# Altium footprint library TSOP_65P_N.PcbLib: 18 footprints (part 1 of 2)
Each footprint in its own frame and in the unit in brackets; x right, y up, seen from the top. Pads: shape width x height; smd on the part's side, far side on the other; paste and mask are expansions set on the pad; w line width, h text height; cw(c..) or ccw(c..) is an arc to the next point about the centre after c.
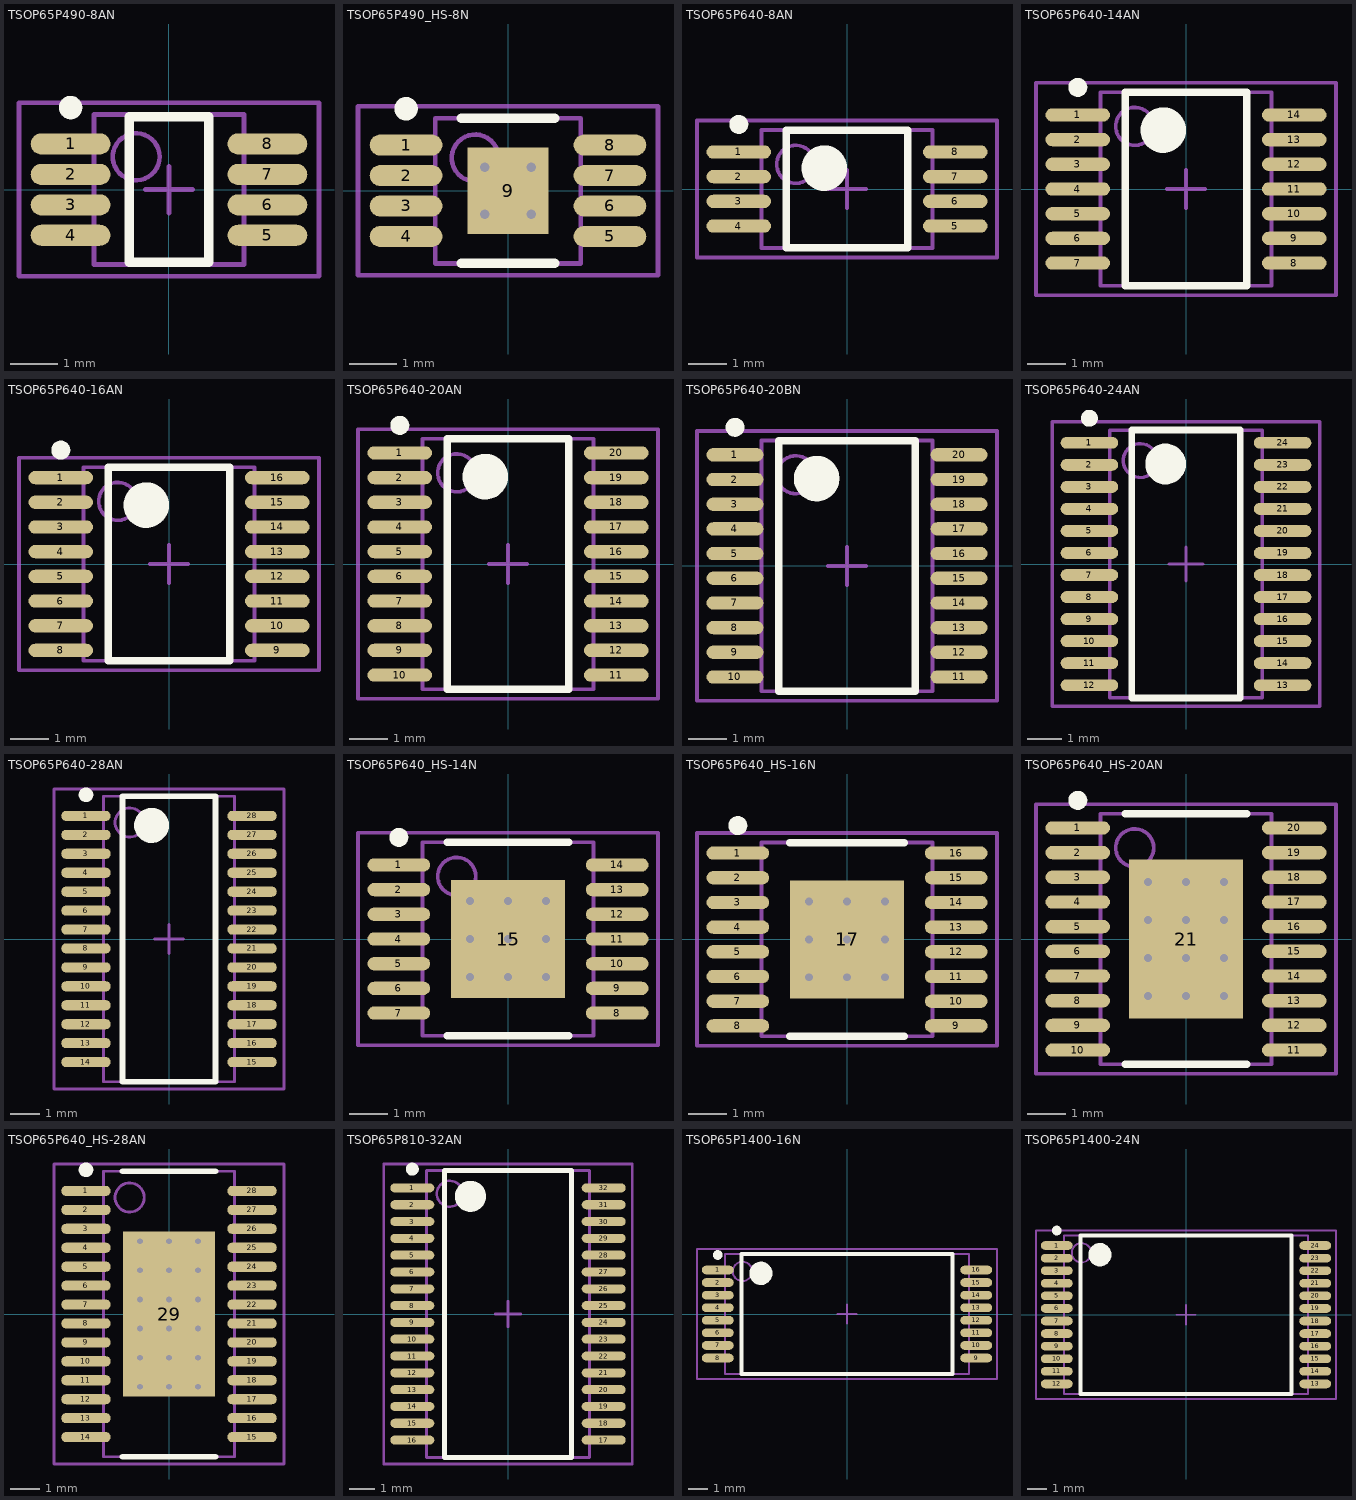
[diagram p0: the footprints below, top view; thin cyan lines are the x and y axes]

## TSOP65P490-8AN [mm] "TSOP, 8-Leads, Body 3x3mm, Pitch 0.65mm, IPC Medium Density"
height 1.1
pads (8):
  oval 1.7x0.45 smd: 1(-2.1,0.975) 2(-2.1,0.325) 3(-2.1,-0.325) 4(-2.1,-0.975) 5(2.1,-0.975) 6(2.1,-0.325) 7(2.1,0.325) 8(2.1,0.975)
Top Overlay:
  circle w0.25: c-2.1,1.75 r0.125
  lines w0.2: -0.85,-1.55 0.85,-1.55 0.85,1.55 -0.85,1.55 -0.85,-1.55
Mechanical 13:
  circle w0.1: c-0.7,0.7 r0.5
  lines w0.1: -1.6,-1.6 1.6,-1.6 1.6,1.6 -1.6,1.6 -1.6,-1.6
Mechanical 15:
  lines w0.1: -0.5,0 0.5,0 ; 0,-0.5 0,0.5 ; -3.2,-1.85 3.2,-1.85 3.2,1.85 -3.2,1.85 -3.2,-1.85
3D body: height 1.1, standoff 0, extent -1.6,-1.6 1.6,1.6

## TSOP65P490_HS-8N [mm] "TSOP, 8-Leads, Body 3x3mm, Pitch 0.65mm, Exposed Pad, IPC Medium Density"
height 1.09
pads (9):
  oval 1.55x0.45 smd: 1(-2.175,0.975) 2(-2.175,0.325) 3(-2.175,-0.325) 4(-2.175,-0.975) 5(2.175,-0.975) 6(2.175,-0.325) 7(2.175,0.325) 8(2.175,0.975)
  rect 1.73x1.85 smd: 9(0,0)
via 0.5,-0.5 diameter 0.4 hole 0.2
via -0.5,-0.5 diameter 0.4 hole 0.2
via 0.5,0.5 diameter 0.4 hole 0.2
via -0.5,0.5 diameter 0.4 hole 0.2
Top Overlay:
  circle w0.25: c-2.175,1.75 r0.125
  lines w0.2: -1,-1.55 1,-1.55 ; -1,1.55 1,1.55
Mechanical 13:
  circle w0.1: c-0.7,0.7 r0.5
  lines w0.1: -1.55,-1.55 1.55,-1.55 1.55,1.55 -1.55,1.55 -1.55,-1.55
Mechanical 15:
  lines w0.1: -0.5,0 0.5,0 ; 0,-0.5 0,0.5 ; -3.2,-1.8 3.2,-1.8 3.2,1.8 -3.2,1.8 -3.2,-1.8
3D body: height 1.09, standoff 0, extent -1.549,-1.549 1.549,1.549

## TSOP65P640-8AN [mm] "TSOP, 8-Leads, Body 3x4.4mm, Pitch 0.65mm, IPC Medium Density"
height 1.1
pads (8):
  oval 1.7x0.35 smd: 1(-2.85,0.975) 2(-2.85,0.325) 3(-2.85,-0.325) 4(-2.85,-0.975) 5(2.85,-0.975) 6(2.85,-0.325) 7(2.85,0.325) 8(2.85,0.975)
Top Overlay:
  circle w0.6: c-0.6,0.55 r0.3
  circle w0.25: c-2.85,1.7 r0.125
  lines w0.2: -1.6,-1.55 1.6,-1.55 1.6,1.55 -1.6,1.55 -1.6,-1.55
Mechanical 13:
  circle w0.1: c-1.35,0.65 r0.5
  lines w0.1: -2.25,-1.55 2.25,-1.55 2.25,1.55 -2.25,1.55 -2.25,-1.55
Mechanical 15:
  lines w0.1: -0.5,0 0.5,0 ; 0,-0.5 0,0.5 ; -3.95,-1.8 3.95,-1.8 3.95,1.8 -3.95,1.8 -3.95,-1.8
3D body: height 1.1, standoff 0, extent -2.25,-1.55 2.25,1.55

## TSOP65P640-14AN [mm] "TSOP, 14-Leads, Body 5x4.4mm, Pitch 0.65mm, IPC Medium Density"
height 1.2
pads (14):
  oval 1.7x0.35 smd: 1(-2.85,1.95) 2(-2.85,1.3) 3(-2.85,0.65) 4(-2.85,0) 5(-2.85,-0.65) 6(-2.85,-1.3) 7(-2.85,-1.95) 8(2.85,-1.95) 9(2.85,-1.3) 10(2.85,-0.65) 11(2.85,0) 12(2.85,0.65) 13(2.85,1.3) 14(2.85,1.95)
Top Overlay:
  circle w0.6: c-0.6,1.55 r0.3
  circle w0.25: c-2.85,2.675 r0.125
  lines w0.2: -1.6,-2.55 1.6,-2.55 1.6,2.55 -1.6,2.55 -1.6,-2.55
Mechanical 13:
  circle w0.1: c-1.35,1.65 r0.5
  lines w0.1: -2.25,-2.55 2.25,-2.55 2.25,2.55 -2.25,2.55 -2.25,-2.55
Mechanical 15:
  lines w0.1: -0.5,0 0.5,0 ; 0,-0.5 0,0.5 ; -3.95,-2.8 3.95,-2.8 3.95,2.8 -3.95,2.8 -3.95,-2.8
3D body: height 1.2, standoff 0, extent -2.25,-2.55 2.25,2.55

## TSOP65P640-16AN [mm] "TSOP, 16-Leads, Body 5x4.4mm, Pitch 0.65mm, IPC Medium Density"
height 1.1
pads (16):
  oval 1.7x0.35 smd: 1(-2.85,2.275) 2(-2.85,1.625) 3(-2.85,0.975) 4(-2.85,0.325) 5(-2.85,-0.325) 6(-2.85,-0.975) 7(-2.85,-1.625) 8(-2.85,-2.275) 9(2.85,-2.275) 10(2.85,-1.625) 11(2.85,-0.975) 12(2.85,-0.325) 13(2.85,0.325) 14(2.85,0.975) 15(2.85,1.625) 16(2.85,2.275)
Top Overlay:
  circle w0.6: c-0.6,1.55 r0.3
  circle w0.25: c-2.85,3 r0.125
  lines w0.2: -1.6,-2.55 1.6,-2.55 1.6,2.55 -1.6,2.55 -1.6,-2.55
Mechanical 13:
  circle w0.1: c-1.35,1.65 r0.5
  lines w0.1: -2.25,-2.55 2.25,-2.55 2.25,2.55 -2.25,2.55 -2.25,-2.55
Mechanical 15:
  lines w0.1: -0.5,0 0.5,0 ; 0,-0.5 0,0.5 ; -3.95,-2.8 3.95,-2.8 3.95,2.8 -3.95,2.8 -3.95,-2.8
3D body: height 1.1, standoff 0, extent -2.25,-2.55 2.25,2.55

## TSOP65P640-20AN [mm] "TSOP, 20-Leads, Body 6.5x4.4mm, Pitch 0.65mm, IPC Medium Density"
height 1.1
pads (20):
  oval 1.7x0.35 smd: 1(-2.85,2.925) 2(-2.85,2.275) 3(-2.85,1.625) 4(-2.85,0.975) 5(-2.85,0.325) 6(-2.85,-0.325) 7(-2.85,-0.975) 8(-2.85,-1.625) 9(-2.85,-2.275) 10(-2.85,-2.925) 11(2.85,-2.925) 12(2.85,-2.275) 13(2.85,-1.625) 14(2.85,-0.975) 15(2.85,-0.325) 16(2.85,0.325) 17(2.85,0.975) 18(2.85,1.625) 19(2.85,2.275) 20(2.85,2.925)
Top Overlay:
  circle w0.6: c-0.6,2.3 r0.3
  circle w0.25: c-2.85,3.65 r0.125
  lines w0.2: -1.6,-3.3 1.6,-3.3 1.6,3.3 -1.6,3.3 -1.6,-3.3
Mechanical 13:
  circle w0.1: c-1.35,2.4 r0.5
  lines w0.1: -2.25,-3.3 2.25,-3.3 2.25,3.3 -2.25,3.3 -2.25,-3.3
Mechanical 15:
  lines w0.1: -0.5,0 0.5,0 ; 0,-0.5 0,0.5 ; -3.95,-3.55 3.95,-3.55 3.95,3.55 -3.95,3.55 -3.95,-3.55
3D body: height 1.1, standoff 0, extent -2.25,-3.3 2.25,3.3

## TSOP65P640-20BN [mm] "TSOP, 20-Leads, Body 6.5x4.4mm, Pitch 0.65mm, IPC Medium Density"
height 1.2
pads (20):
  oval 1.5x0.35 smd: 1(-2.95,2.925) 2(-2.95,2.275) 3(-2.95,1.625) 4(-2.95,0.975) 5(-2.95,0.325) 6(-2.95,-0.325) 7(-2.95,-0.975) 8(-2.95,-1.625) 9(-2.95,-2.275) 10(-2.95,-2.925) 11(2.95,-2.925) 12(2.95,-2.275) 13(2.95,-1.625) 14(2.95,-0.975) 15(2.95,-0.325) 16(2.95,0.325) 17(2.95,0.975) 18(2.95,1.625) 19(2.95,2.275) 20(2.95,2.925)
Top Overlay:
  circle w0.6: c-0.8,2.3 r0.3
  circle w0.25: c-2.95,3.65 r0.125
  lines w0.2: -1.8,-3.3 1.8,-3.3 1.8,3.3 -1.8,3.3 -1.8,-3.3
Mechanical 13:
  circle w0.1: c-1.35,2.4 r0.5
  lines w0.1: -2.25,-3.3 2.25,-3.3 2.25,3.3 -2.25,3.3 -2.25,-3.3
Mechanical 15:
  lines w0.1: -0.5,0 0.5,0 ; 0,-0.5 0,0.5 ; -3.95,-3.55 3.95,-3.55 3.95,3.55 -3.95,3.55 -3.95,-3.55
3D body: height 1.2, standoff 0, extent -2.25,-3.3 2.25,3.3

## TSOP65P640-24AN [mm] "TSOP, 24-Leads, Body 7.8x4.4mm, Pitch 0.65mm, IPC Medium Density"
height 1.1
pads (24):
  oval 1.7x0.35 smd: 1(-2.85,3.575) 2(-2.85,2.925) 3(-2.85,2.275) 4(-2.85,1.625) 5(-2.85,0.975) 6(-2.85,0.325) 7(-2.85,-0.325) 8(-2.85,-0.975) 9(-2.85,-1.625) 10(-2.85,-2.275) 11(-2.85,-2.925) 12(-2.85,-3.575) 13(2.85,-3.575) 14(2.85,-2.925) 15(2.85,-2.275) 16(2.85,-1.625) 17(2.85,-0.975) 18(2.85,-0.325) 19(2.85,0.325) 20(2.85,0.975) 21(2.85,1.625) 22(2.85,2.275) 23(2.85,2.925) 24(2.85,3.575)
Top Overlay:
  circle w0.25: c-2.85,4.3 r0.125
  circle w0.6: c-0.6,2.95 r0.3
  lines w0.2: -1.6,-3.95 -1.6,3.95 1.6,3.95 1.6,-3.95 -1.6,-3.95
Mechanical 13:
  circle w0.1: c-1.35,3.05 r0.5
  lines w0.1: -2.25,-3.95 -2.25,3.95 2.25,3.95 2.25,-3.95 -2.25,-3.95
Mechanical 15:
  lines w0.1: -0.5,0 0.5,0 ; 0,-0.5 0,0.5 ; -3.95,-4.2 -3.95,4.2 3.95,4.2 3.95,-4.2 -3.95,-4.2
3D body: height 1.1, standoff 0, extent -2.25,-3.95 2.25,3.95

## TSOP65P640-28AN [mm] "TSOP, 28-Leads, Body 9.7x4.4mm, Pitch 0.65mm, IPC Medium Density"
height 1.1
pads (28):
  oval 1.7x0.35 smd: 1(-2.85,4.225) 2(-2.85,3.575) 3(-2.85,2.925) 4(-2.85,2.275) 5(-2.85,1.625) 6(-2.85,0.975) 7(-2.85,0.325) 8(-2.85,-0.325) 9(-2.85,-0.975) 10(-2.85,-1.625) 11(-2.85,-2.275) 12(-2.85,-2.925) 13(-2.85,-3.575) 14(-2.85,-4.225) 15(2.85,-4.225) 16(2.85,-3.575) 17(2.85,-2.925) 18(2.85,-2.275) 19(2.85,-1.625) 20(2.85,-0.975) 21(2.85,-0.325) 22(2.85,0.325) 23(2.85,0.975) 24(2.85,1.625) 25(2.85,2.275) 26(2.85,2.925) 27(2.85,3.575) 28(2.85,4.225)
Top Overlay:
  circle w0.6: c-0.6,3.9 r0.3
  circle w0.25: c-2.85,4.95 r0.125
  lines w0.2: -1.6,-4.9 1.6,-4.9 1.6,4.9 -1.6,4.9 -1.6,-4.9
Mechanical 13:
  circle w0.1: c-1.35,4 r0.5
  lines w0.1: -2.25,-4.9 2.25,-4.9 2.25,4.9 -2.25,4.9 -2.25,-4.9
Mechanical 15:
  lines w0.1: -0.5,0 0.5,0 ; 0,-0.5 0,0.5 ; -3.95,-5.15 3.95,-5.15 3.95,5.15 -3.95,5.15 -3.95,-5.15
3D body: height 1.1, standoff 0, extent -2.25,-4.9 2.25,4.9

## TSOP65P640_HS-14N [mm] "TSOP, 14-Leads, Body 5x4.4mm, Pitch 0.65mm, Exposed Pad, IPC Medium Density"
height 1.1
pads (15):
  oval 1.65x0.35 smd: 1(-2.875,1.95) 2(-2.875,1.3) 3(-2.875,0.65) 4(-2.875,0) 5(-2.875,-0.65) 6(-2.875,-1.3) 7(-2.875,-1.95) 8(2.875,-1.95) 9(2.875,-1.3) 10(2.875,-0.65) 11(2.875,0) 12(2.875,0.65) 13(2.875,1.3) 14(2.875,1.95)
  rect 3x3.1 smd: 15(0,0)
via 1,1 diameter 0.4 hole 0.2
via 1,-1 diameter 0.4 hole 0.2
via 1,0 diameter 0.4 hole 0.2
via -1,1 diameter 0.4 hole 0.2
via 0,1 diameter 0.4 hole 0.2
via 0,-1 diameter 0.4 hole 0.2
via -1,-1 diameter 0.4 hole 0.2
via 0,0 diameter 0.4 hole 0.2
via -1,0 diameter 0.4 hole 0.2
Top Overlay:
  circle w0.25: c-2.875,2.675 r0.125
  lines w0.2: -1.6,-2.55 1.6,-2.55 ; -1.6,2.55 1.6,2.55
Mechanical 13:
  circle w0.1: c-1.35,1.65 r0.5
  lines w0.1: -2.25,-2.55 -2.25,2.55 2.25,2.55 2.25,-2.55 -2.25,-2.55
Mechanical 15:
  lines w0.1: -0.5,0 0.5,0 ; 0,-0.5 0,0.5 ; -3.95,-2.8 -3.95,2.8 3.95,2.8 3.95,-2.8 -3.95,-2.8
3D body: height 1.1, standoff 0, extent -2.25,-2.55 2.25,2.55

## TSOP65P640_HS-16N [mm] "TSOP, 16-Leads, Body 5x4.4mm, Pitch 0.65mm, Exposed Pad, IPC Medium Density"
height 1.1
pads (17):
  oval 1.65x0.35 smd: 1(-2.875,2.275) 2(-2.875,1.625) 3(-2.875,0.975) 4(-2.875,0.325) 5(-2.875,-0.325) 6(-2.875,-0.975) 7(-2.875,-1.625) 8(-2.875,-2.275) 9(2.875,-2.275) 10(2.875,-1.625) 11(2.875,-0.975) 12(2.875,-0.325) 13(2.875,0.325) 14(2.875,0.975) 15(2.875,1.625) 16(2.875,2.275)
  rect 3x3.1 smd: 17(0,0)
via -1,0 diameter 0.4 hole 0.2
via 0,0 diameter 0.4 hole 0.2
via -1,-1 diameter 0.4 hole 0.2
via 0,-1 diameter 0.4 hole 0.2
via 0,1 diameter 0.4 hole 0.2
via -1,1 diameter 0.4 hole 0.2
via 1,0 diameter 0.4 hole 0.2
via 1,-1 diameter 0.4 hole 0.2
via 1,1 diameter 0.4 hole 0.2
Top Overlay:
  circle w0.25: c-2.875,3 r0.125
  lines w0.2: -1.5,-2.55 1.5,-2.55 ; -1.5,2.55 1.5,2.55
Mechanical 13:
  lines w0.1: -2.25,-2.55 2.25,-2.55 2.25,2.55 -2.25,2.55 -2.25,-2.55
Mechanical 15:
  lines w0.1: -0.5,0 0.5,0 ; 0,-0.5 0,0.5 ; -3.95,-2.8 3.95,-2.8 3.95,2.8 -3.95,2.8 -3.95,-2.8
3D body: height 1.1, standoff 0, extent -2.25,-2.55 2.25,2.55

## TSOP65P640_HS-20AN [mm] "TSOP, 20-Leads, Body 6.5x4.4mm, Pitch 0.65mm, Exposed Pad, IPC Medium Density"
height 1.1
pads (21):
  oval 1.7x0.35 smd: 1(-2.85,2.925) 2(-2.85,2.275) 3(-2.85,1.625) 4(-2.85,0.975) 5(-2.85,0.325) 6(-2.85,-0.325) 7(-2.85,-0.975) 8(-2.85,-1.625) 9(-2.85,-2.275) 10(-2.85,-2.925) 11(2.85,-2.925) 12(2.85,-2.275) 13(2.85,-1.625) 14(2.85,-0.975) 15(2.85,-0.325) 16(2.85,0.325) 17(2.85,0.975) 18(2.85,1.625) 19(2.85,2.275) 20(2.85,2.925)
  rect 3x4.2 smd: 21(0,0)
via 0,0.5 diameter 0.5 hole 0.2
via 1,0.5 diameter 0.5 hole 0.2
via 0,-0.5 diameter 0.5 hole 0.2
via 1,-0.5 diameter 0.5 hole 0.2
via 0,-1.5 diameter 0.5 hole 0.2
via 1,-1.5 diameter 0.5 hole 0.2
via -1,-1.5 diameter 0.5 hole 0.2
via -1,-0.5 diameter 0.5 hole 0.2
via -1,0.5 diameter 0.5 hole 0.2
via -1,1.5 diameter 0.5 hole 0.2
via 1,1.5 diameter 0.5 hole 0.2
via 0,1.5 diameter 0.5 hole 0.2
Top Overlay:
  circle w0.25: c-2.85,3.65 r0.125
  lines w0.2: -1.6,-3.3 1.6,-3.3 ; -1.6,3.3 1.6,3.3
Mechanical 13:
  circle w0.1: c-1.35,2.4 r0.5
  lines w0.1: -2.25,-3.3 -2.25,3.3 2.25,3.3 2.25,-3.3 -2.25,-3.3
Mechanical 15:
  lines w0.1: -0.5,0 0.5,0 ; 0,-0.5 0,0.5 ; -3.95,-3.55 -3.95,3.55 3.95,3.55 3.95,-3.55 -3.95,-3.55
3D body: height 1.1, standoff 0, extent -2.25,-3.3 2.25,3.3

## TSOP65P640_HS-28AN [mm] "TSOP, 28-Leads, Body 9.7x4.4mm, Pitch 0.65mm, Exposed Pad, IPC Medium Density"
height 1.1
pads (29):
  oval 1.7x0.35 smd: 1(-2.85,4.225) 2(-2.85,3.575) 3(-2.85,2.925) 4(-2.85,2.275) 5(-2.85,1.625) 6(-2.85,0.975) 7(-2.85,0.325) 8(-2.85,-0.325) 9(-2.85,-0.975) 10(-2.85,-1.625) 11(-2.85,-2.275) 12(-2.85,-2.925) 13(-2.85,-3.575) 14(-2.85,-4.225) 15(2.85,-4.225) 16(2.85,-3.575) 17(2.85,-2.925) 18(2.85,-2.275) 19(2.85,-1.625) 20(2.85,-0.975) 21(2.85,-0.325) 22(2.85,0.325) 23(2.85,0.975) 24(2.85,1.625) 25(2.85,2.275) 26(2.85,2.925) 27(2.85,3.575) 28(2.85,4.225)
  rect 3.15x5.65 smd: 29(0,0)
via 1,2.5 diameter 0.4 hole 0.2
via 0,2.5 diameter 0.4 hole 0.2
via -1,2.5 diameter 0.4 hole 0.2
via -1,0.5 diameter 0.4 hole 0.2
via -1,-0.5 diameter 0.4 hole 0.2
via -1,-1.5 diameter 0.4 hole 0.2
via -1,1.5 diameter 0.4 hole 0.2
via -1,-2.5 diameter 0.4 hole 0.2
via 0,-2.5 diameter 0.4 hole 0.2
via 1,-2.5 diameter 0.4 hole 0.2
via 0,1.5 diameter 0.4 hole 0.2
via 1,1.5 diameter 0.4 hole 0.2
via 1,-1.5 diameter 0.4 hole 0.2
via 0,-1.5 diameter 0.4 hole 0.2
via 1,-0.5 diameter 0.4 hole 0.2
via 0,-0.5 diameter 0.4 hole 0.2
via 1,0.5 diameter 0.4 hole 0.2
via 0,0.5 diameter 0.4 hole 0.2
Top Overlay:
  circle w0.25: c-2.85,4.95 r0.125
  lines w0.2: -1.6,-4.9 1.6,-4.9 ; -1.6,4.9 1.6,4.9
Mechanical 13:
  circle w0.1: c-1.35,4 r0.5
  lines w0.1: -2.25,-4.9 2.25,-4.9 2.25,4.9 -2.25,4.9 -2.25,-4.9
Mechanical 15:
  lines w0.1: -3.95,-5.15 3.95,-5.15 3.95,5.15 -3.95,5.15 -3.95,-5.15 ; -0.5,0 0.5,0 -0.5,0 ; 0,-0.5 0,0.5 0,-0.5
3D body: height 1.1, standoff 0, extent -2.25,-4.9 2.25,4.9

## TSOP65P810-32AN [mm] "TSOP, 32-Leads, Body 11x6.2mm, Pitch 0.65mm, IPC Medium Density"
height 1.2
pads (32):
  oval 1.7x0.35 smd: 1(-3.7,4.875) 2(-3.7,4.225) 3(-3.7,3.575) 4(-3.7,2.925) 5(-3.7,2.275) 6(-3.7,1.625) 7(-3.7,0.975) 8(-3.7,0.325) 9(-3.7,-0.325) 10(-3.7,-0.975) 11(-3.7,-1.625) 12(-3.7,-2.275) 13(-3.7,-2.925) 14(-3.7,-3.575) 15(-3.7,-4.225) 16(-3.7,-4.875) 17(3.7,-4.875) 18(3.7,-4.225) 19(3.7,-3.575) 20(3.7,-2.925) 21(3.7,-2.275) 22(3.7,-1.625) 23(3.7,-0.975) 24(3.7,-0.325) 25(3.7,0.325) 26(3.7,0.975) 27(3.7,1.625) 28(3.7,2.275) 29(3.7,2.925) 30(3.7,3.575) 31(3.7,4.225) 32(3.7,4.875)
Top Overlay:
  circle w0.25: c-3.7,5.6 r0.125
  circle w0.6: c-1.45,4.55 r0.3
  lines w0.2: -2.45,-5.55 -2.45,5.55 2.45,5.55 2.45,-5.55 -2.45,-5.55
Mechanical 13:
  circle w0.1: c-2.25,4.65 r0.5
  lines w0.1: -3.15,-5.55 -3.15,5.55 3.15,5.55 3.15,-5.55 -3.15,-5.55
Mechanical 15:
  lines w0.1: -0.5,0 0.5,0 ; 0,-0.5 0,0.5 ; -4.8,-5.8 -4.8,5.8 4.8,5.8 4.8,-5.8 -4.8,-5.8
3D body: height 1.2, standoff 0, extent -3.15,-5.55 3.15,5.55

## TSOP65P1400-16N [mm] "TSOP, 16-Leads, Body 6.2x12.6mm, Pitch 0.65mm, IPC Medium Density"
height 1.27
pads (16):
  oval 1.65x0.45 smd: 1(-6.675,2.275) 2(-6.675,1.625) 3(-6.675,0.975) 4(-6.675,0.325) 5(-6.675,-0.325) 6(-6.675,-0.975) 7(-6.675,-1.625) 8(-6.675,-2.275) 9(6.675,-2.275) 10(6.675,-1.625) 11(6.675,-0.975) 12(6.675,-0.325) 13(6.675,0.325) 14(6.675,0.975) 15(6.675,1.625) 16(6.675,2.275)
Top Overlay:
  circle w0.25: c-6.675,3.05 r0.125
  circle w0.6: c-4.45,2.1 r0.3
  lines w0.2: -5.45,-3.1 -5.45,3.1 5.45,3.1 5.45,-3.1 -5.45,-3.1
Mechanical 13:
  circle w0.1: c-5.4,2.2 r0.5
  lines w0.1: -6.3,-3.1 -6.3,3.1 6.3,3.1 6.3,-3.1 -6.3,-3.1
Mechanical 15:
  lines w0.1: -0.5,0 0.5,0 ; 0,-0.5 0,0.5 ; -7.75,-3.35 -7.75,3.35 7.75,3.35 7.75,-3.35 -7.75,-3.35
3D body: height 1.27, standoff 0, extent -6.3,-3.1 6.3,3.1

## TSOP65P1400-24N [mm] "TSOP, 24-Leads, Body 8.2x12.6mm, Pitch 0.65mm, IPC Medium Density"
height 1.27
pads (24):
  oval 1.65x0.45 smd: 1(-6.675,3.575) 2(-6.675,2.925) 3(-6.675,2.275) 4(-6.675,1.625) 5(-6.675,0.975) 6(-6.675,0.325) 7(-6.675,-0.325) 8(-6.675,-0.975) 9(-6.675,-1.625) 10(-6.675,-2.275) 11(-6.675,-2.925) 12(-6.675,-3.575) 13(6.675,-3.575) 14(6.675,-2.925) 15(6.675,-2.275) 16(6.675,-1.625) 17(6.675,-0.975) 18(6.675,-0.325) 19(6.675,0.325) 20(6.675,0.975) 21(6.675,1.625) 22(6.675,2.275) 23(6.675,2.925) 24(6.675,3.575)
Top Overlay:
  circle w0.25: c-6.675,4.35 r0.125
  circle w0.6: c-4.45,3.1 r0.3
  lines w0.2: -5.45,-4.1 -5.45,4.1 5.45,4.1 5.45,-4.1 -5.45,-4.1
Mechanical 13:
  circle w0.1: c-5.4,3.2 r0.5
  lines w0.1: -6.3,-4.1 -6.3,4.1 6.3,4.1 6.3,-4.1 -6.3,-4.1
Mechanical 15:
  lines w0.1: -0.5,0 0.5,0 ; 0,-0.5 0,0.5 ; -7.75,-4.35 -7.75,4.35 7.75,4.35 7.75,-4.35 -7.75,-4.35
3D body: height 1.27, standoff 0, extent -6.3,-4.1 6.3,4.1